# Altium footprint library PCB - RF MODULE - DIGI XBEE SX.PcbLib: 1 footprints
Each footprint in its own frame and in the unit in brackets; x right, y up, seen from the top. Pads: shape width x height; smd on the part's side, far side on the other; paste and mask are expansions set on the pad; w line width, h text height; cw(c..) or ccw(c..) is an arc to the next point about the centre after c.
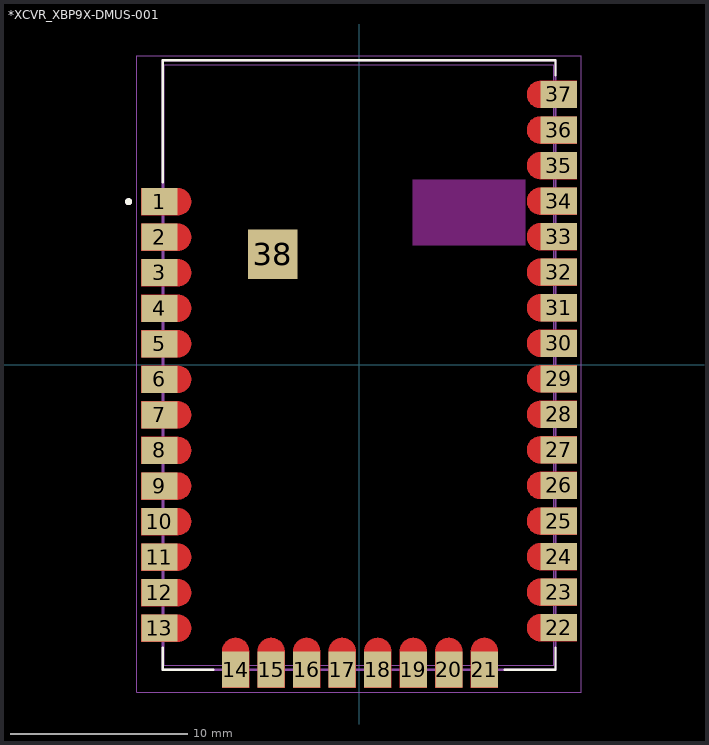
[diagram p0: the footprint, top view; thin cyan lines are the x and y axes]

## *XCVR_XBP9X-DMUS-001 [mm]
pads (38):
  rect 2.04x1.52 smd: 1(-11.23,9.19) 2(-11.23,7.19) 3(-11.23,5.19) 4(-11.23,3.19) 5(-11.23,1.19) 6(-11.23,-0.81) 7(-11.23,-2.81) 8(-11.23,-4.81) 9(-11.23,-6.81) 10(-11.23,-8.81) 11(-11.23,-10.81) 12(-11.23,-12.81) 13(-11.23,-14.81) 22(11.23,-14.78) 23(11.23,-12.78) 24(11.23,-10.78) 25(11.23,-8.78) 26(11.23,-6.78) 27(11.23,-4.78) 28(11.23,-2.78) 29(11.23,-0.78) 30(11.23,1.22) 31(11.23,3.22) 32(11.23,5.22) 33(11.23,7.22) 34(11.23,9.22) 35(11.23,11.22) 36(11.23,13.22) 37(11.23,15.22)
  rect 1.52x2.04 smd: 14(-6.95,-17.14) 15(-4.95,-17.14) 16(-2.95,-17.14) 17(-0.95,-17.14) 18(1.05,-17.14) 19(3.05,-17.14) 20(5.05,-17.14) 21(7.05,-17.14)
  rect 2.79x2.79 smd: 38(-4.855,6.225)
Top Layer:
  drawing of 37 lines, arcs and shapes, not listed
Top Overlay:
  circle w0.2: c-12.97,9.19 r0.1
  lines w0.127: -11.05,-17.145 -8.2,-17.145 ; -11.049,-17.145 -11.049,-15.89 ; -11.049,10.27 -11.049,17.145 11.049,17.145 11.049,16.3 ; 8.2,-17.145 11.05,-17.145 ; 11.049,-17.145 11.049,-15.89
Top Paste:
  drawing of 38 lines, arcs and shapes, not listed
Top Solder:
  drawing of 37 lines, arcs and shapes, not listed
Keep-Out Layer:
  region: 3.03,10.42 9.35,10.42 9.35,6.74 3.03,6.74
  region: 3.03,10.42 9.35,10.42 9.35,6.74 3.03,6.74
  region: 3.03,10.42 9.35,10.42 9.35,6.74 3.03,6.74
  region: 3.03,10.42 9.35,10.42 9.35,6.74 3.03,6.74
  region: 3.03,10.42 9.35,10.42 9.35,6.74 3.03,6.74
  region: 3.03,10.42 9.35,10.42 9.35,6.74 3.03,6.74
  region: 3.03,10.42 9.35,10.42 9.35,6.74 3.03,6.74
  region: 3.03,10.42 9.35,10.42 9.35,6.74 3.03,6.74
  region: 3.03,10.42 9.35,10.42 9.35,6.74 3.03,6.74
Mechanical 4:
  circle w0.2: c-12.97,9.19 r0.1
  circle w0.2: c-12.97,9.19 r0.1
  lines w0.03: -10.95,-16.89 10.95,-16.89 ; -10.95,-16.89 -10.95,16.89 ; -10.95,-16.89 10.95,-16.89 ; -10.95,-16.89 -10.95,16.89 ; -10.95,16.89 10.95,16.89 ; -10.95,16.89 10.95,16.89 ; 10.95,-16.89 10.95,16.89 ; 10.95,-16.89 10.95,16.89
  lines w0.127: -11.049,-17.145 11.049,-17.145 ; -11.049,-17.145 -11.049,17.145 ; -11.049,-17.145 11.049,-17.145 ; -11.049,-17.145 -11.049,17.145 ; -11.049,17.145 11.049,17.145 ; -11.049,17.145 11.049,17.145 ; 11.049,-17.145 11.049,17.145 ; 11.049,-17.145 11.049,17.145
Mechanical 16:
  lines w0.05: -12.5,-18.41 12.5,-18.41 12.5,17.395 -12.5,17.395 -12.5,-18.41
3D body "Xbee SX v3.step": height 1.85, standoff 0, extent -11.049,-16.9 11.049,16.882